# Altium schematic symbol library caravan_sch_lib.SchLib: 23 symbols
Pins are listed as number, name and electrical type; pins without a type are passive.

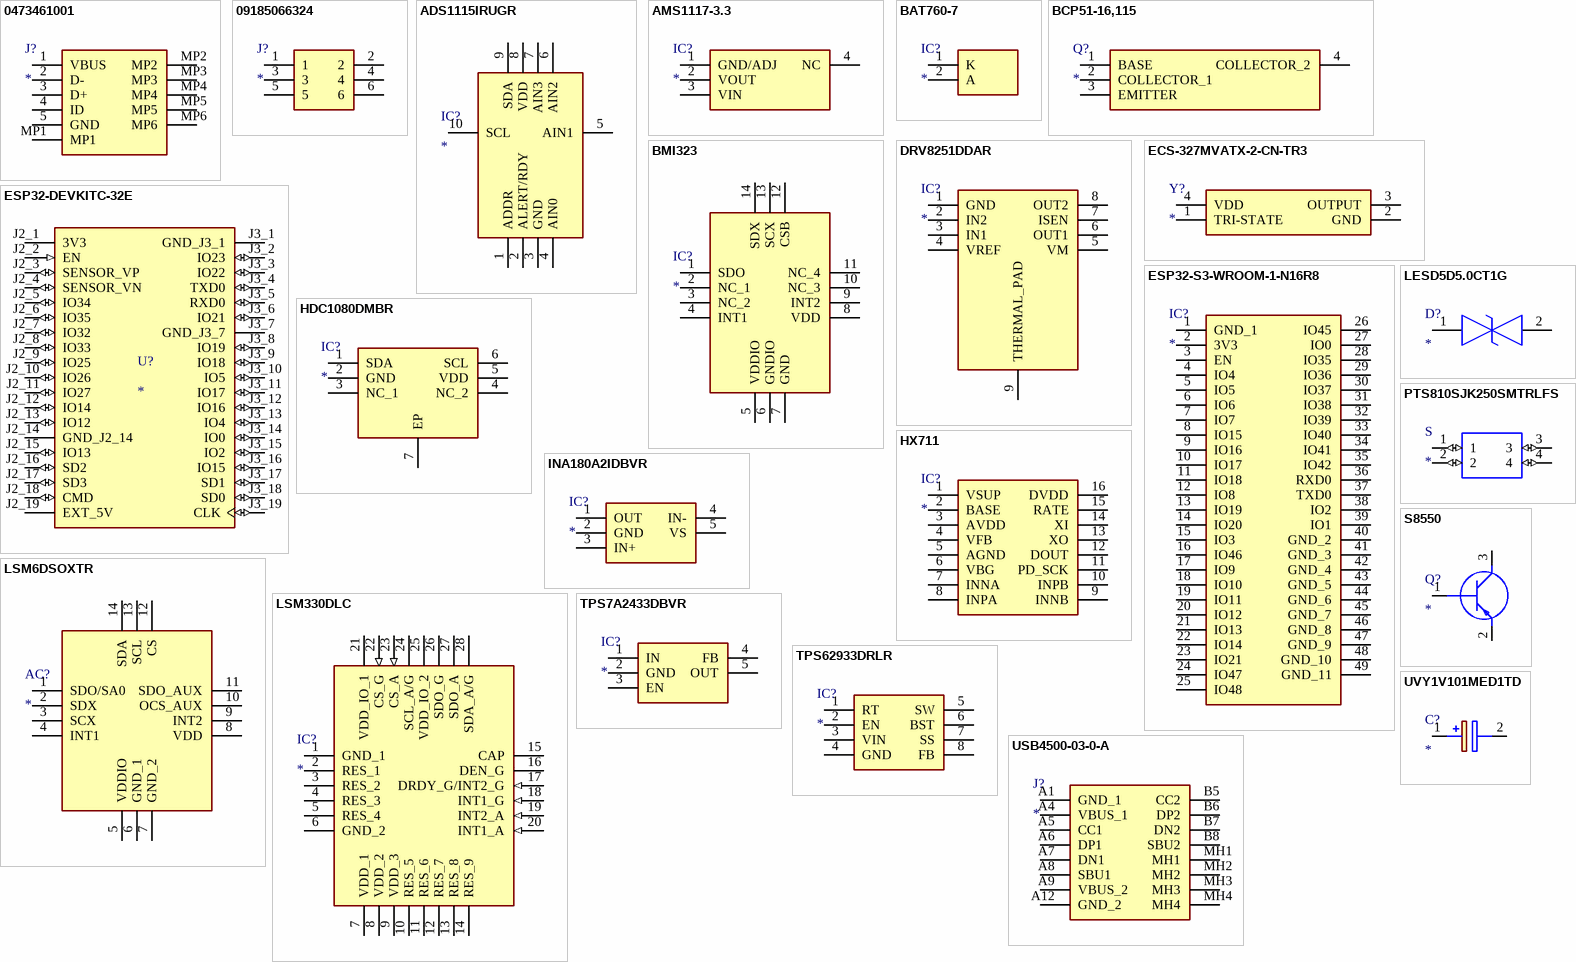
[diagram p0: symbols 0473461001 to UVY1V101MED1TD]

## 0473461001
designator J?
Connector; Manufacturer_Name: Molex; Manufacturer_Part_Number: 0473461001; Datasheet Link: https://componentsearchengine.com/Datasheets/1/0473461001.pdf; Height: 2.45mm; Mouser Part Number: N/A; Mouser Price/Stock: https://www.mouser.co.uk/ProductDetail/Molex/0473461001?qs=2bnkQPT%252BPafTZgGVt%2FOGfA%3D%3D; Arrow Part Number: 0473461001; Arrow Price/Stock: https://www.arrow.com/en/products/0473461001/molex?region=nac
footprint 0473461001
pins: 1 VBUS, 2 D-, 3 D+, 4 ID, 5 GND, MP1, MP2, MP3, MP4, MP5, MP6

## 09185066324
designator J?
Connector; Manufacturer_Name: HARTING; Manufacturer_Part_Number: 09185066324; Datasheet Link: https://b2b.harting.com/files/download/PRD/PDF_DS/PDF_DS_09185066324_EN.pdf; Mouser Part Number: 617-09185066324; Mouser Price/Stock: https://www.mouser.co.uk/ProductDetail/HARTING/09185066324?qs=qa49y27LPCE%2F3ZplMsKEeQ%3D%3D; Arrow Part Number: 09185066324; Arrow Price/Stock: https://www.arrow.com/en/products/09185066324/harting?utm_currency=USD&region=europe
footprint 09185066324
pins: 1, 2, 3, 4, 5, 6

## ADS1115IRUGR
designator IC?
Integrated Circuit; Manufacturer_Name: Texas Instruments; Manufacturer_Part_Number: ADS1115IRUGR; Description: Analog to Digital Converters - ADC 16B ADC w/ Int MUX PGA Comp Osc & Ref; Datasheet Link: https://www.ti.com/lit/ds/symlink/ads1115.pdf?ts=1601235703022&ref_url=https%253A%252F%252Fwww.ti.com%252Fproduct%252FADS1115%253FkeyMatch%253DADS1115IRUGR%2526tisearch%253DSearch-EN-everything%2526usecase%253DOPN; Height: 0.4mm; Mouser Part Number: 595-ADS1115IRUGR; Mouser Price/Stock: https://www.mouser.co.uk/ProductDetail/Texas-Instruments/ADS1115IRUGR?qs=IK5e5L0zOXhqw%2F8AHSSbuA%3D%3D; Arrow Part Number: ADS1115IRUGR; Arrow Price/Stock: https://www.arrow.com/en/products/ads1115irugr/texas-instruments?region=nac
footprint ADS1115IRUGR
pins: 1 ADDR, 2 ALERT/RDY, 3 GND, 4 AIN0, 5 AIN1, 6 AIN2, 7 AIN3, 8 VDD, 9 SDA, 10 SCL

## AMS1117-3.3
designator IC?
Integrated Circuit; Manufacturer_Name: Advanced; Manufacturer_Part_Number: AMS1117-3.3; Datasheet Link: https://datasheet.datasheetarchive.com/originals/distributors/Datasheets-28/DSA-550594.pdf; Height: 1.8mm
footprint SOT229P700X180-4N
pins: 1 GND/ADJ, 2 VOUT, 3 VIN, 4 NC

## BAT760-7
designator IC?
Integrated Circuit; Manufacturer_Name: Lattice Semiconductor; Manufacturer_Part_Number: BAT760-7; Datasheet Link: https://www.diodes.com/assets/Datasheets/ds30498.pdf; Height: 1.2mm; Mouser Part Number: N/A; Mouser Price/Stock: https://www.mouser.com/Search/Refine.aspx?Keyword=N%2FA
footprint SOD2513X120N
pins: 1 K, 2 A

## BCP51-16,115
designator Q?
Transistor RET PNP; Manufacturer_Name: Nexperia; Manufacturer_Part_Number: BCP51-16,115; Datasheet Link: https://assets.nexperia.com/documents/data-sheet/BCP51_BCX51_BC51PA.pdf; Height: 1.8mm; Mouser Part Number: 771-BCP51-16115; Mouser Price/Stock: https://www.mouser.co.uk/ProductDetail/Nexperia/BCP51-16115?qs=me8TqzrmIYWCpWFRx2LkNw%3D%3D; Arrow Part Number: BCP51-16,115; Arrow Price/Stock: https://www.arrow.com/en/products/bcp51-16115/nexperia?region=nac
footprint SOT230P700X180-4N
pins: 1 BASE, 2 COLLECTOR_1, 3 EMITTER, 4 COLLECTOR_2

## BMI323
designator IC?
Integrated Circuit; Manufacturer_Name: BOSCH; Manufacturer_Part_Number: BMI323; Description: 3.0 SHUTTLE BOARD DEV KIT BMI323; Datasheet Link: https://www.bosch-sensortec.com/media/boschsensortec/downloads/datasheets/bst-bmi323-ds000.pdf; Height: 0.87mm; Mouser Part Number: 262-BMI323; Mouser Price/Stock: https://www.mouser.co.uk/ProductDetail/Bosch-Sensortec/BMI323?qs=By6Nw2ByBD3%2FE1v0UqNQPQ%3D%3D; Arrow Part Number: BMI323; Arrow Price/Stock: https://www.arrow.com/en/products/bmi323/bosch?utm_currency=USD&region=nac
footprint BMI323
pins: 1 SDO, 2 NC_1, 3 NC_2, 4 INT1, 5 VDDIO, 6 GNDIO, 7 GND, 8 VDD, 9 INT2, 10 NC_3, 11 NC_4, 12 CSB, 13 SCX, 14 SDX

## DRV8251DDAR
designator IC?
Integrated Circuit; Manufacturer_Name: Texas Instruments; Manufacturer_Part_Number: DRV8251DDAR; Datasheet Link: https://www.arrow.com/en/products/drv8251ddar/texas-instruments?region=nac; Height: 1.7mm; Mouser Part Number: 595-DRV8251DDAR; Mouser Price/Stock: https://www.mouser.co.uk/ProductDetail/Texas-Instruments/DRV8251DDAR?qs=doiCPypUmgHTzZyfapGahQ%3D%3D; Arrow Part Number: DRV8251DDAR; Arrow Price/Stock: https://www.arrow.com/en/products/drv8251ddar/texas-instruments?region=nac
footprint SOIC127P600X170-9N (Footprint not found)
pins: 1 GND, 2 IN2, 3 IN1, 4 VREF, 5 VM, 6 OUT1, 7 ISEN, 8 OUT2, 9 THERMAL_PAD

## ECS-327MVATX-2-CN-TR3
designator Y?
Crystal or Oscillator; Manufacturer_Name: ECS; Manufacturer_Part_Number: ECS-327MVATX-2-CN-TR3; Datasheet Link: https://www.mouser.hk/datasheet/2/122/ECS_327MVATX-2580060.pdf; Height: 1mm; Mouser Part Number: 520-327MVATX-2-CNTR3; Mouser Price/Stock: https://www.mouser.co.uk/ProductDetail/ECS/ECS-327MVATX-2-CN-TR3?qs=7D1LtPJG0i3bLaOWFTjL5A%3D%3D; Arrow Part Number: ECS-327MVATX-2-CN-TR3; Arrow Price/Stock: https://www.arrow.com/en/products/ecs-327mvatx-2-cn-tr3/ecs-international?region=nac
footprint ECS327MVATX2CNTR3
pins: 1 TRI-STATE, 2 GND, 3 OUTPUT, 4 VDD

## ESP32-DEVKITC-32E
designator U?
- ESP32-WROOM-32E Transceiver; 802.11 b/g/n (Wi-Fi, WiFi, WLAN), BluetoothÂ® Smart Ready 4.x Dual Mode 2.4GHz Evaluation Board; MF: Espressif Systems; MP: ESP32-DEVKITC-32E; SnapEDA_Link: https://www.snapeda.com/parts/ESP32-DEVKITC-32E/Espressif+Systems/view-part/?ref=snap; Package: None; Value: *; Check_prices: https://www.snapeda.com/parts/ESP32-DEVKITC-32E/Espressif+Systems/view-part/?ref=eda
footprint MODULE_ESP32-DEVKITC-32E
pins: J2_1 3V3 (power), J2_2 EN (in), J2_3 SENSOR_VP (io), J2_4 SENSOR_VN (io), J2_5 IO34 (io), J2_6 IO35 (io), J2_7 IO32 (io), J2_8 IO33 (io), J2_9 IO25 (io), J2_10 IO26 (io), J2_11 IO27 (io), J2_12 IO14 (io), J2_13 IO12 (io), J2_14 GND_J2_14 (power), J2_15 IO13 (io), J2_16 SD2 (io), J2_17 SD3 (io), J2_18 CMD (io), J2_19 EXT_5V (power), J3_1 GND_J3_1 (power), J3_2 IO23 (io), J3_3 IO22 (io), J3_4 TXD0 (io), J3_5 RXD0 (io), J3_6 IO21 (io), J3_7 GND_J3_7 (power), J3_8 IO19 (io), J3_9 IO18 (io), J3_10 IO5 (io), J3_11 IO17 (io), J3_12 IO16 (io), J3_13 IO4 (io), J3_14 IO0 (io), J3_15 IO2 (io), J3_16 IO15 (io), J3_17 SD1 (io), J3_18 SD0 (io), J3_19 CLK (io)

## ESP32-S3-WROOM-1-N16R8
designator IC?
Integrated Circuit; Manufacturer_Name: Espressif Systems; Manufacturer_Part_Number: ESP32-S3-WROOM-1-N16R8; Datasheet Link: https://www.espressif.com/sites/default/files/documentation/esp32-s3-wroom-1_wroom-1u_datasheet_en.pdf; Height: 3.25mm; Mouser Part Number: 356-ESP32S3WRM1N16R8; Mouser Price/Stock: https://www.mouser.co.uk/ProductDetail/Espressif-Systems/ESP32-S3-WROOM-1-N16R8?qs=Li%252BoUPsLEnvQc9gW6AMhZg%3D%3D
footprint ESP32S3WROOM1N16R8
pins: 1 GND_1, 2 3V3, 3 EN, 4 IO4, 5 IO5, 6 IO6, 7 IO7, 8 IO15, 9 IO16, 10 IO17, 11 IO18, 12 IO8, 13 IO19, 14 IO20, 15 IO3, 16 IO46, 17 IO9, 18 IO10, 19 IO11, 20 IO12, 21 IO13, 22 IO14, 23 IO21, 24 IO47, 25 IO48, 26 IO45, 27 IO0, 28 IO35, 29 IO36, 30 IO37, 31 IO38, 32 IO39, 33 IO40, 34 IO41, 35 IO42, 36 RXD0, 37 TXD0, 38 IO2, 39 IO1, 40 GND_2, 41 GND_3, 42 GND_4, 43 GND_5, 44 GND_6, 45 GND_7, 46 GND_8, 47 GND_9, 48 GND_10, 49 GND_11

## HDC1080DMBR
designator IC?
Integrated Circuit; Manufacturer_Name: Texas Instruments; Manufacturer_Part_Number: HDC1080DMBR; Datasheet Link: http://www.ti.com/lit/gpn/HDC1080; Height: 0.8mm; Mouser Part Number: 595-HDC1080DMBR; Mouser Price/Stock: https://www.mouser.co.uk/ProductDetail/Texas-Instruments/HDC1080DMBR?qs=8%2FmU9qzJpL9OuhPLRSO9Vg%3D%3D; Arrow Part Number: HDC1080DMBR; Arrow Price/Stock: https://www.arrow.com/en/products/hdc1080dmbr/texas-instruments?region=nac
footprint SON100P300X300X80-7N-D
pins: 1 SDA, 2 GND, 3 NC_1, 4 NC_2, 5 VDD, 6 SCL, 7 EP

## HX711
designator IC?
Integrated Circuit; Manufacturer_Name: AVIA; Manufacturer_Part_Number: HX711; Datasheet Link: https://cdn.sparkfun.com/datasheets/Sensors/ForceFlex/hx711_english.pdf; Height: 1.6mm
footprint SOIC127P600X160-16N
pins: 1 VSUP, 2 BASE, 3 AVDD, 4 VFB, 5 AGND, 6 VBG, 7 INNA, 8 INPA, 9 INNB, 10 INPB, 11 PD_SCK, 12 DOUT, 13 XO, 14 XI, 15 RATE, 16 DVDD

## INA180A2IDBVR
designator IC?
Integrated Circuit; Manufacturer_Name: Texas Instruments; Manufacturer_Part_Number: INA180A2IDBVR; Description: Current Sense Amplifiers MULTI CHANNEL CURRENT SENSE L/H SIDE; Datasheet Link: http://www.ti.com/lit/ds/symlink/ina180.pdf; Height: 1.45mm; Mouser Part Number: 595-INA180A2IDBVR; Mouser Price/Stock: https://www.mouser.co.uk/ProductDetail/Texas-Instruments/INA180A2IDBVR?qs=5aG0NVq1C4wYcJfa99BoHg%3D%3D; Arrow Part Number: INA180A2IDBVR; Arrow Price/Stock: https://www.arrow.com/en/products/ina180a2idbvr/texas-instruments?utm_currency=USD&region=nac
footprint SOT95P280X145-5N
pins: 1 OUT, 2 GND, 3 IN+, 4 IN-, 5 VS

## LESD5D5.0CT1G
designator D?
TVS Diode (Bi-directional); Manufacturer_Name: LRC; Manufacturer_Part_Number: LESD5D5.0CT1G; Height: 0.7mm
footprint LESD5D50CT1G
pins: 1, 2

## LSM6DSOXTR
designator AC?
Accelerometer; Manufacturer_Name: STMicroelectronics; Manufacturer_Part_Number: LSM6DSOXTR; Datasheet Link: https://www.st.com/resource/en/datasheet/lsm6dsox.pdf; Mouser Part Number: 511-LSM6DSOXTR; Mouser Price/Stock: https://www.mouser.co.uk/ProductDetail/STMicroelectronics/LSM6DSOXTR?qs=l7cgNqFNU1i9dcjzItLpVQ%3D%3D; Arrow Part Number: LSM6DSOXTR; Arrow Price/Stock: https://www.arrow.com/en/products/lsm6dsoxtr/stmicroelectronics?region=europe
footprint LGA-14_1
pins: 1 SDO/SA0, 2 SDX, 3 SCX, 4 INT1, 5 VDDIO, 6 GND_1, 7 GND_2, 8 VDD, 9 INT2, 10 OCS_AUX, 11 SDO_AUX, 12 CS, 13 SCL, 14 SDA

## LSM330DLC
designator IC?
Integrated Circuit; Manufacturer_Name: STMicroelectronics; Manufacturer_Part_Number: LSM330DLC; Datasheet Link: https://datasheet.datasheetarchive.com/originals/distributors/Datasheets-DGA3/311865.pdf; Height: 1.1mm; Mouser Part Number: 511-LSM330DLC; Mouser Price/Stock: https://www.mouser.co.uk/ProductDetail/STMicroelectronics/LSM330DLC?qs=UOUhb9503hG6XTnhPwzi0A%3D%3D; Arrow Part Number: LSM330DLC; Arrow Price/Stock: https://www.arrow.com/en/products/lsm330dlc/stmicroelectronics
footprint PQFN50P392X492X110-28N
pins: 1 GND_1 (power), 2 RES_1, 3 RES_2, 4 RES_3, 5 RES_4, 6 GND_2 (power), 7 VDD_1 (power), 8 VDD_2 (power), 9 VDD_3 (power), 10 RES_5, 11 RES_6, 12 RES_7, 13 RES_8, 14 RES_9, 15 CAP, 16 DEN_G, 17 DRDY_G/INT2_G (in), 18 INT1_G (in), 19 INT2_A (in), 20 INT1_A (in), 21 VDD_IO_1 (power), 22 CS_G (in), 23 CS_A (in), 24 SCL_A/G, 25 VDD_IO_2 (power), 26 SDO_G, 27 SDO_A, 28 SDA_A/G

## PTS810SJK250SMTRLFS
designator S
Tactile Switch SPST-NO Top Actuated Surface Mount; MF: C&K; MP: PTS810SJK250SMTRLFS; SnapEDA_Link: https://www.snapeda.com/parts/PTS810SJK250SMTRLFS/C%26K/view-part/274682/?ref=snap; Package: None; Price: None; Availability: Unavailable; Value: *
footprint PTS810SJG250SMTRLFS
pins: 1 (io), 2 (io), 3 (io), 4 (io)

## S8550
designator Q?
Transistor BJT PNP; Manufacturer_Name: Galaxy; Manufacturer_Part_Number: S8550; Datasheet Link: https://datasheet.datasheetarchive.com/originals/distributors/Datasheets-3/DSA-49109.pdf; Height: 1.1mm
footprint SOT95P240X110-3N
pins: 1 B, 2 E, 3 C

## TPS7A2433DBVR
designator IC?
Integrated Circuit; Manufacturer_Name: Texas Instruments; Manufacturer_Part_Number: TPS7A2433DBVR; Datasheet Link: https://www.ti.com/lit/gpn/TPS7A24; Height: 1.45mm; Mouser Part Number: 595-TPS7A2433DBVR; Mouser Price/Stock: https://www.mouser.co.uk/ProductDetail/Texas-Instruments/TPS7A2433DBVR?qs=wnTfsH77Xs7ROpwa%2Fm0jWA%3D%3D; Arrow Part Number: TPS7A2433DBVR; Arrow Price/Stock: null?region=nac
footprint SOT95P280X145-5N
pins: 1 IN, 2 GND, 3 EN, 4 FB, 5 OUT

## TPS62933DRLR
designator IC?
Integrated Circuit; Manufacturer_Name: Texas Instruments; Manufacturer_Part_Number: TPS62933DRLR; Datasheet Link: https://www.ti.com/lit/ds/symlink/tps62933.pdf?ts=1626073394234; Height: 0.6mm; Mouser Part Number: 595-TPS62933DRLR; Mouser Price/Stock: https://www.mouser.co.uk/ProductDetail/Texas-Instruments/TPS62933DRLR?qs=Rp5uXu7WBW9fv47wfQVntQ%3D%3D; Arrow Part Number: TPS62933DRLR; Arrow Price/Stock: https://www.arrow.com/en/products/tps62933drlr/texas-instruments?utm_currency=USD&region=nac
footprint SOTFL50P160X60-8N
pins: 1 RT, 2 EN, 3 VIN, 4 GND, 5 SW, 6 BST, 7 SS, 8 FB

## USB4500-03-0-A
designator J?
Connector; Manufacturer_Name: GCT (GLOBAL CONNECTOR TECHNOLOGY); Manufacturer_Part_Number: USB4500-03-0-A; Datasheet Link: https://componentsearchengine.com/Datasheets/2/USB4500-03-0-A.pdf; Mouser Part Number: 640-USB4500030A; Mouser Price/Stock: https://www.mouser.co.uk/ProductDetail/GCT/USB4500-03-0-A?qs=7D1LtPJG0i2mVyw7UtV%2FkQ%3D%3D
footprint USB4500030A
pins: A1 GND_1, A4 VBUS_1, A5 CC1, A6 DP1, A7 DN1, A8 SBU1, A9 VBUS_2, A12 GND_2, B5 CC2, B6 DP2, B7 DN2, B8 SBU2, MH1, MH2, MH3, MH4

## UVY1V101MED1TD
designator C?
Capacitor Polarised; Manufacturer_Name: Nichicon; Manufacturer_Part_Number: UVY1V101MED1TD; Datasheet Link: http://nichicon-us.com/english/products/pdfs/e-uvy.pdf; Height: 12.5mm; Arrow Part Number: UVY1V101MED1TD; Arrow Price/Stock: https://www.arrow.com/en/products/uvy1v101med1td/nichicon
footprint CAPPRD250W50D655H1250
pins: 1 +, 2 -